# Altium schematic symbol library Amplifiers.SchLib: 2 symbols
Pins are listed as number, name and electrical type; pins without a type are passive.

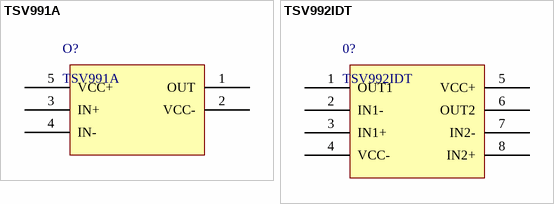
[diagram p0: symbols TSV991A to TSV992IDT]

## TSV991A
designator O?
Operational Amplifiers Op Amps SOT23-5 1 Channel 20 MHz; ComponentLink1Description: Mouser; ComponentLink1URL: https://www.mouser.com.tr/ProductDetail/STMicroelectronics/TSV991AILT?qs=NCG0bTVqH4ejiP6AM1B8jw%3D%3D
footprint SOT23-5
pins: 1 OUT, 2 VCC-, 3 IN+, 4 IN-, 5 VCC+

## TSV992IDT
designator 0?
Operational Amplifiers Op Amps SOIC-8 2 Channel 20 MHz; ComponentLink1Description: Digi-Key; ComponentLink1URL: https://www.digikey.com/en/products/detail/stmicroelectronics/TSV992IDT/1578406
footprint SOIC8
pins: 1 OUT1, 2 IN1-, 3 IN1+, 4 VCC-, 5 VCC+, 6 OUT2, 7 IN2-, 8 IN2+